# EAGLE library part LM324 (library op-amp)
OP-AMP Quad, Single Supply
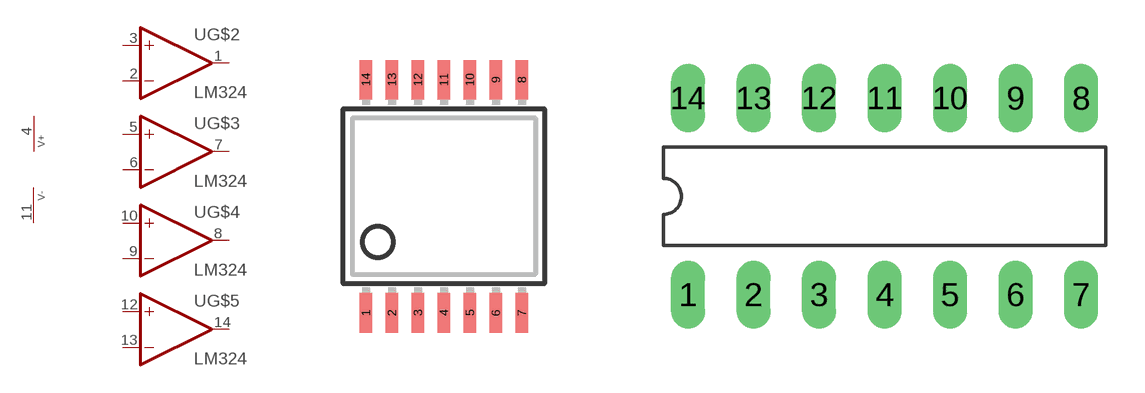
[diagram p19: symbol with the pads of TSSOP14; footprints TSSOP14, DIL14]

Designator prefix U; gates G$1=PWR+- G$2=OPAMP G$3=OPAMP G$4=OPAMP G$5=OPAMP

## LM324MTX (P1I: o)  [TSSOP14]
1  G$2:OUT  out
2  G$2:-IN  in
3  G$2:+IN  in
4  G$1:V+  pwr
5  G$3:+IN  in
6  G$3:-IN  in
7  G$3:OUT  out
8  G$4:OUT  out
9  G$4:-IN  in
10  G$4:+IN  in
11  G$1:V-  pwr
12  G$5:+IN  in
13  G$5:-IN  in
14  G$5:OUT  out

## LM324N (P1I: o)  [DIL14]

## LM324M (P1I: o)  [SO14]

## Footprint TSSOP14 (pad centres in mm)
Thin Shrink Small Outline Plastic 14
smd 0.305 x 0.991: 1 -1.95,-2.918; 2 -1.3,-2.918; 3 -0.65,-2.918; 4 0,-2.918; 5 0.65,-2.918; 6 1.3,-2.918; 7 1.95,-2.918; 8 1.95,2.918; 9 1.3,2.918; 10 0.65,2.918; 11 0,2.918; 12 -0.65,2.918; 13 -1.3,2.918; 14 -1.95,2.918

## Footprint DIL14 (pad centres in mm)
Dual In Line Package
drill 0.813 long: 1 -7.62,-3.81; 2 -5.08,-3.81; 3 -2.54,-3.81; 4 0,-3.81; 5 2.54,-3.81; 6 5.08,-3.81; 7 7.62,-3.81; 8 7.62,3.81; 9 5.08,3.81; 10 2.54,3.81; 11 0,3.81; 12 -2.54,3.81; 13 -5.08,3.81; 14 -7.62,3.81

## Footprint SO14 (pad centres in mm)
SMALL OUTLINE INTEGRATED CIRCUIT body 3.9 mm/JEDEC MS-012AC
smd 0.6 x 1.9: 1 -3.81,-2.6; 2 -2.54,-2.6; 3 -1.27,-2.6; 4 0,-2.6; 5 1.27,-2.6; 6 2.54,-2.6; 7 3.81,-2.6; 8 3.81,2.6; 9 2.54,2.6; 10 1.27,2.6; 11 0,2.6; 12 -1.27,2.6; 13 -2.54,2.6; 14 -3.81,2.6